# Altium footprint library PCB - LEADED - SC-70 - 3PEAK SC5 SOT353-5-A.PcbLib: 1 footprints
Each footprint in its own frame and in the unit in brackets; x right, y up, seen from the top. Pads: shape width x height; smd on the part's side, far side on the other; paste and mask are expansions set on the pad; w line width, h text height; cw(c..) or ccw(c..) is an arc to the next point about the centre after c.
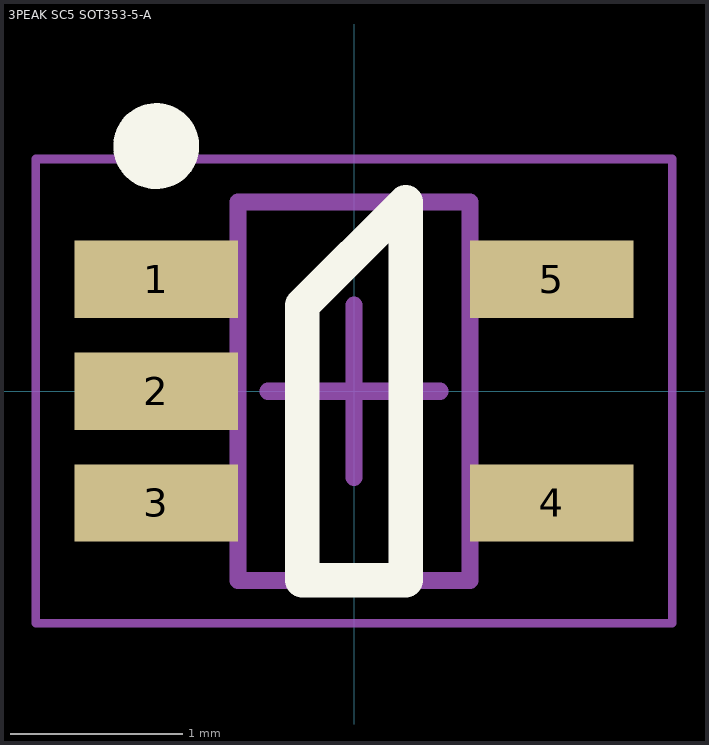
[diagram p0: the footprint, top view; thin cyan lines are the x and y axes]

## 3PEAK SC5 SOT353-5-A [mm] "SC70-5, 5-Leads, Body 2.10x2.30mm, Pitch 0.65mm"
height 1.1
pads (5):
  rect 0.95x0.45 smd: 1(-1.15,0.65) 2(-1.15,0) 3(-1.15,-0.65) 4(1.15,-0.65) 5(1.15,0.65)
Top Overlay:
  circle w0.25: c-1.15,1.425 r0.125
  lines w0.2: -0.3,-1.1 -0.3,0.5 0.3,1.1 0.3,-1.1 -0.3,-1.1
Mechanical 13:
  lines w0.1: -0.675,-1.1 0.675,-1.1 0.675,1.1 -0.675,1.1 -0.675,-1.1
Mechanical 15:
  lines w0.05: -1.85,-1.35 1.85,-1.35 1.85,1.35 -1.85,1.35 -1.85,-1.35
  lines w0.1: -0.5,0 0.5,0 ; 0,-0.5 0,0.5
3D body "3PEAK SC5 SOT353-5-A.step": height 1.1, standoff 0, extent -1.225,-1.1 1.225,1.1